# Altium integrated library TI Data Converters Analog to Digital Converter.IntLib: 2198 symbols (part 69 of 164)
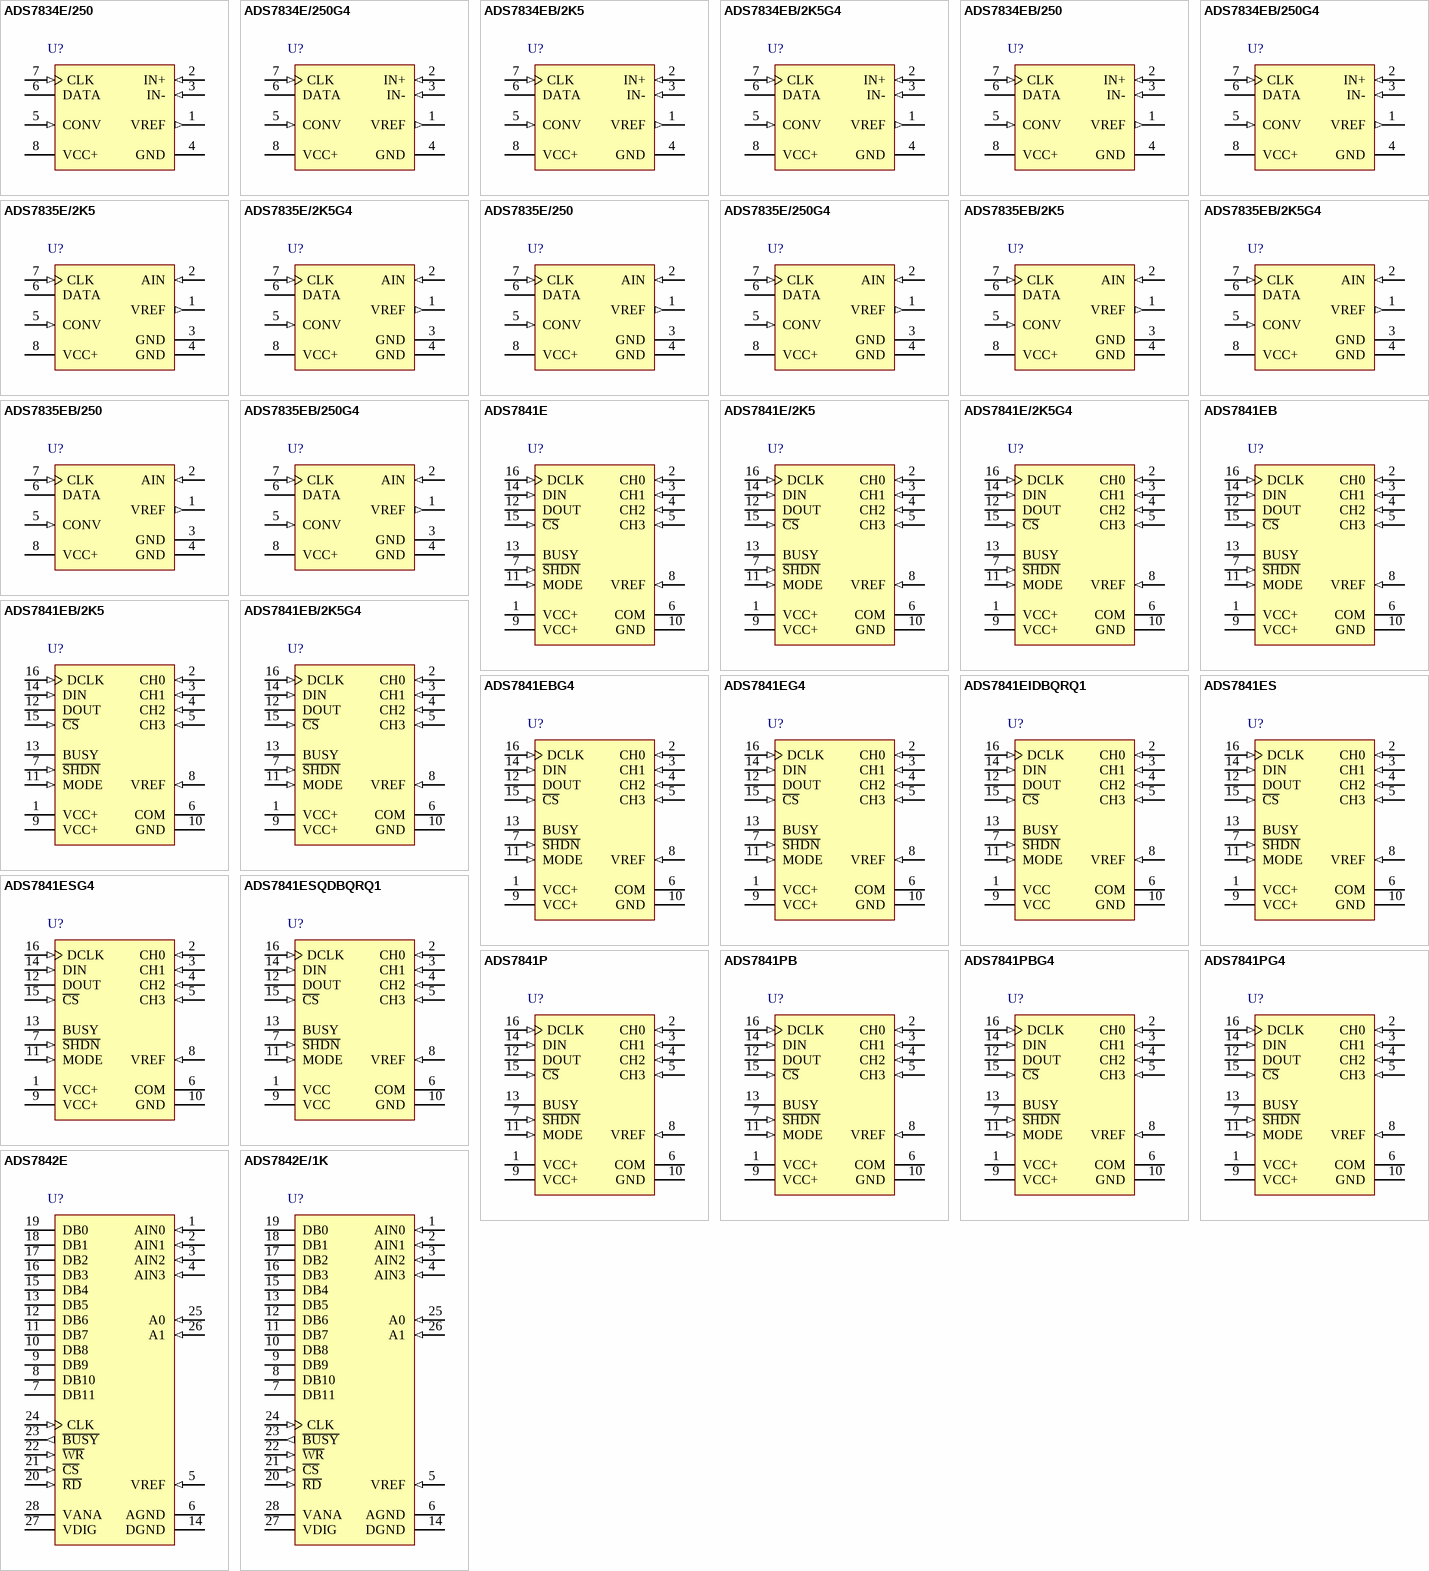
[diagram p194: symbols ADS7834E/250 to ADS7842E/1K]

## ADS7834E/250G4
designator U?
12-Bit High Speed Low Power Sampling ADC, -40 to 85 degC, 8-pin SOP (DGK8), Green (RoHS & no Sb/Br); Manufacturer: Texas Instruments; PartNumber: ADS7834E/250G4; # Input Channels: 1; Analog Voltage AV/DD(Max)(V): 5.25; Analog Voltage AV/DD(Min)(V): 4.75; Architecture: SAR; INL(Max)(+/-LSB): 2; Interface: Serial SPI; Resolution(Bits): 12; Sample Rate (max)(SPS): 500k; SFDR(dB): 78; SINAD(dB): 70; SNR(dB): 72; SubFamily: Precision ADC (<=10MSPS); DatasheetVersion: SBAS098A; PackageVersion: 4073329/E, 05/2006; PackageReference: DGK8; PackageDescription: 8-Pin Thin Small Outline, Body 3 x 3 mm, Pitch 0.65 mm; Supplier 1: Digi-Key; Supplier Part Number 1: ADS8324E/2K5-ND; Digital Supply(Max)(V): 5.25; Digital Supply(Min)(V): 4.75; Eco-Plan: Green (RoHS & no Sb/Br); Mounting Technology: Surface Mount; Code_JEDEC: MO-187; ComponentLink1Description: Manufacturer URL; ComponentLink1URL: http://www.ti.com/; ComponentLink2Description: Datasheet; ComponentLink2URL: http://www.ti.com/general/docs/lit/getliterature.tsp?genericPartNumber=ADS7834&fileType=pdf; ComponentLink3Description: Package Specification; ComponentLink3URL: http://www.ti.com/litv/pdf/mpds028d
footprint TI-DGK8_N (SOP, 8-Leads, Body 3x3mm, Pitch 0.65mm, IPC Medium Density)
footprint TI-DGK8_L (SOP, 8-Leads, Body 3x3mm, Pitch 0.65mm, IPC High Density)
footprint TI-DGK8_M (SOP, 8-Leads, Body 3x3mm, Pitch 0.65mm, IPC Low Density)
pins: 1 VREF (out) "Reference Output. Decouple to ground with a 0.1uF ceramic capacitor and a 2.2uF tantalum capacitor.", 2 IN+ (in) "Non-Inverting Input.", 3 IN- (in) "Inverting Input. Connect to ground or to remote ground sense point.", 4 GND (power) "Ground.", 5 CONV (in) "Convert Input. Controls the sample/hold mode, start of conversion, start of serial data transfer, type of serial transfer, and power down mode. See the Digital Interface section for more information.", 6 DATA (hiz) "Serial Data Output. The 12-bit conversion result is serially transmitted most significant bit first with each bit valid on the rising edge of CLK. By properly controlling the CONV input, it is possibly to have the data (See Datasheet)", 7 CLK (in) "Clock Input. Synchronizes the serial data transfer and determines conversion speed.", 8 VCC+ (power) "Power Supply. Decouple to ground with a 0.1uF ceramic capacitor and a 10uF tantalum capacitor."

## ADS7834EB/2K5
designator U?
12-Bit High Speed Low Power Sampling ADC, -40 to 85 degC, 8-pin SOP (DGK8), Green (RoHS & no Sb/Br); Manufacturer: Texas Instruments; PartNumber: ADS7834EB/2K5; # Input Channels: 1; Analog Voltage AV/DD(Max)(V): 5.25; Analog Voltage AV/DD(Min)(V): 4.75; Architecture: SAR; Interface: Serial SPI; Resolution(Bits): 12; Sample Rate (max)(SPS): 500k; SFDR(dB): 82; SINAD(dB): 72; SubFamily: Precision ADC (<=10MSPS); DatasheetVersion: SBAS098A; PackageVersion: 4073329/E, 05/2006; PackageReference: DGK8; PackageDescription: 8-Pin Thin Small Outline, Body 3 x 3 mm, Pitch 0.65 mm; Supplier 1: Digi-Key; Supplier Part Number 1: ADS8324E/2K5G4-ND; Digital Supply(Max)(V): 5.25; Digital Supply(Min)(V): 4.75; Eco-Plan: Green (RoHS & no Sb/Br); INL(Max)(+/-LSB): 1; SNR(dB): 72; Mounting Technology: Surface Mount; Code_JEDEC: MO-187; ComponentLink1Description: Manufacturer URL; ComponentLink1URL: http://www.ti.com/; ComponentLink2Description: Datasheet; ComponentLink2URL: http://www.ti.com/general/docs/lit/getliterature.tsp?genericPartNumber=ADS7834&fileType=pdf; ComponentLink3Description: Package Specification; ComponentLink3URL: http://www.ti.com/litv/pdf/mpds028d
footprint TI-DGK8_N (SOP, 8-Leads, Body 3x3mm, Pitch 0.65mm, IPC Medium Density)
footprint TI-DGK8_L (SOP, 8-Leads, Body 3x3mm, Pitch 0.65mm, IPC High Density)
footprint TI-DGK8_M (SOP, 8-Leads, Body 3x3mm, Pitch 0.65mm, IPC Low Density)
pins: 1 VREF (out) "Reference Output. Decouple to ground with a 0.1uF ceramic capacitor and a 2.2uF tantalum capacitor.", 2 IN+ (in) "Non-Inverting Input.", 3 IN- (in) "Inverting Input. Connect to ground or to remote ground sense point.", 4 GND (power) "Ground.", 5 CONV (in) "Convert Input. Controls the sample/hold mode, start of conversion, start of serial data transfer, type of serial transfer, and power down mode. See the Digital Interface section for more information.", 6 DATA (hiz) "Serial Data Output. The 12-bit conversion result is serially transmitted most significant bit first with each bit valid on the rising edge of CLK. By properly controlling the CONV input, it is possibly to have the data (See Datasheet)", 7 CLK (in) "Clock Input. Synchronizes the serial data transfer and determines conversion speed.", 8 VCC+ (power) "Power Supply. Decouple to ground with a 0.1uF ceramic capacitor and a 10uF tantalum capacitor."

## ADS7834EB/2K5G4
designator U?
12-Bit High Speed Low Power Sampling ADC, -40 to 85 degC, 8-pin SOP (DGK8), Green (RoHS & no Sb/Br); Manufacturer: Texas Instruments; PartNumber: ADS7834EB/2K5G4; # Input Channels: 1; Analog Voltage AV/DD(Max)(V): 5.25; Analog Voltage AV/DD(Min)(V): 4.75; Architecture: SAR; Interface: Serial SPI; Resolution(Bits): 12; Sample Rate (max)(SPS): 500k; SFDR(dB): 82; SINAD(dB): 72; SubFamily: Precision ADC (<=10MSPS); DatasheetVersion: SBAS098A; PackageVersion: 4073329/E, 05/2006; PackageReference: DGK8; PackageDescription: 8-Pin Thin Small Outline, Body 3 x 3 mm, Pitch 0.65 mm; Supplier 1: Digi-Key; Supplier Part Number 1: ADS8324EB/250-ND; Digital Supply(Max)(V): 5.25; Digital Supply(Min)(V): 4.75; Eco-Plan: Green (RoHS & no Sb/Br); INL(Max)(+/-LSB): 1; SNR(dB): 72; Mounting Technology: Surface Mount; Code_JEDEC: MO-187; ComponentLink1Description: Manufacturer URL; ComponentLink1URL: http://www.ti.com/; ComponentLink2Description: Datasheet; ComponentLink2URL: http://www.ti.com/general/docs/lit/getliterature.tsp?genericPartNumber=ADS7834&fileType=pdf; ComponentLink3Description: Package Specification; ComponentLink3URL: http://www.ti.com/litv/pdf/mpds028d
footprint TI-DGK8_N (SOP, 8-Leads, Body 3x3mm, Pitch 0.65mm, IPC Medium Density)
footprint TI-DGK8_L (SOP, 8-Leads, Body 3x3mm, Pitch 0.65mm, IPC High Density)
footprint TI-DGK8_M (SOP, 8-Leads, Body 3x3mm, Pitch 0.65mm, IPC Low Density)
pins: 1 VREF (out) "Reference Output. Decouple to ground with a 0.1uF ceramic capacitor and a 2.2uF tantalum capacitor.", 2 IN+ (in) "Non-Inverting Input.", 3 IN- (in) "Inverting Input. Connect to ground or to remote ground sense point.", 4 GND (power) "Ground.", 5 CONV (in) "Convert Input. Controls the sample/hold mode, start of conversion, start of serial data transfer, type of serial transfer, and power down mode. See the Digital Interface section for more information.", 6 DATA (hiz) "Serial Data Output. The 12-bit conversion result is serially transmitted most significant bit first with each bit valid on the rising edge of CLK. By properly controlling the CONV input, it is possibly to have the data (See Datasheet)", 7 CLK (in) "Clock Input. Synchronizes the serial data transfer and determines conversion speed.", 8 VCC+ (power) "Power Supply. Decouple to ground with a 0.1uF ceramic capacitor and a 10uF tantalum capacitor."

## ADS7834EB/250
designator U?
12-Bit High Speed Low Power Sampling ADC, -40 to 85 degC, 8-pin SOP (DGK8), Green (RoHS & no Sb/Br); Manufacturer: Texas Instruments; PartNumber: ADS7834EB/250; # Input Channels: 1; Analog Voltage AV/DD(Max)(V): 5.25; Analog Voltage AV/DD(Min)(V): 4.75; Architecture: SAR; Interface: Serial SPI; Resolution(Bits): 12; Sample Rate (max)(SPS): 500k; SFDR(dB): 82; SINAD(dB): 72; SubFamily: Precision ADC (<=10MSPS); DatasheetVersion: SBAS098A; PackageVersion: 4073329/E, 05/2006; PackageReference: DGK8; PackageDescription: 8-Pin Thin Small Outline, Body 3 x 3 mm, Pitch 0.65 mm; Supplier 1: Digi-Key; Supplier Part Number 1: ADS8324EB/250G4-ND; Digital Supply(Max)(V): 5.25; Digital Supply(Min)(V): 4.75; Eco-Plan: Green (RoHS & no Sb/Br); INL(Max)(+/-LSB): 1; SNR(dB): 72; Mounting Technology: Surface Mount; Code_JEDEC: MO-187; ComponentLink1Description: Manufacturer URL; ComponentLink1URL: http://www.ti.com/; ComponentLink2Description: Datasheet; ComponentLink2URL: http://www.ti.com/general/docs/lit/getliterature.tsp?genericPartNumber=ADS7834&fileType=pdf; ComponentLink3Description: Package Specification; ComponentLink3URL: http://www.ti.com/litv/pdf/mpds028d
footprint TI-DGK8_N (SOP, 8-Leads, Body 3x3mm, Pitch 0.65mm, IPC Medium Density)
footprint TI-DGK8_L (SOP, 8-Leads, Body 3x3mm, Pitch 0.65mm, IPC High Density)
footprint TI-DGK8_M (SOP, 8-Leads, Body 3x3mm, Pitch 0.65mm, IPC Low Density)
pins: 1 VREF (out) "Reference Output. Decouple to ground with a 0.1uF ceramic capacitor and a 2.2uF tantalum capacitor.", 2 IN+ (in) "Non-Inverting Input.", 3 IN- (in) "Inverting Input. Connect to ground or to remote ground sense point.", 4 GND (power) "Ground.", 5 CONV (in) "Convert Input. Controls the sample/hold mode, start of conversion, start of serial data transfer, type of serial transfer, and power down mode. See the Digital Interface section for more information.", 6 DATA (hiz) "Serial Data Output. The 12-bit conversion result is serially transmitted most significant bit first with each bit valid on the rising edge of CLK. By properly controlling the CONV input, it is possibly to have the data (See Datasheet)", 7 CLK (in) "Clock Input. Synchronizes the serial data transfer and determines conversion speed.", 8 VCC+ (power) "Power Supply. Decouple to ground with a 0.1uF ceramic capacitor and a 10uF tantalum capacitor."

## ADS7834EB/250G4
designator U?
12-Bit High Speed Low Power Sampling ADC, -40 to 85 degC, 8-pin SOP (DGK8), Green (RoHS & no Sb/Br); Manufacturer: Texas Instruments; PartNumber: ADS7834EB/250G4; # Input Channels: 1; Analog Voltage AV/DD(Max)(V): 5.25; Analog Voltage AV/DD(Min)(V): 4.75; Architecture: SAR; Interface: Serial SPI; Resolution(Bits): 12; Sample Rate (max)(SPS): 500k; SFDR(dB): 82; SINAD(dB): 72; SubFamily: Precision ADC (<=10MSPS); DatasheetVersion: SBAS098A; PackageVersion: 4073329/E, 05/2006; PackageReference: DGK8; PackageDescription: 8-Pin Thin Small Outline, Body 3 x 3 mm, Pitch 0.65 mm; Supplier 1: Digi-Key; Supplier Part Number 1: ADS8324EB/2K5-ND; Digital Supply(Max)(V): 5.25; Digital Supply(Min)(V): 4.75; Eco-Plan: Green (RoHS & no Sb/Br); INL(Max)(+/-LSB): 1; SNR(dB): 72; Mounting Technology: Surface Mount; Code_JEDEC: MO-187; ComponentLink1Description: Manufacturer URL; ComponentLink1URL: http://www.ti.com/; ComponentLink2Description: Datasheet; ComponentLink2URL: http://www.ti.com/general/docs/lit/getliterature.tsp?genericPartNumber=ADS7834&fileType=pdf; ComponentLink3Description: Package Specification; ComponentLink3URL: http://www.ti.com/litv/pdf/mpds028d
footprint TI-DGK8_N (SOP, 8-Leads, Body 3x3mm, Pitch 0.65mm, IPC Medium Density)
footprint TI-DGK8_L (SOP, 8-Leads, Body 3x3mm, Pitch 0.65mm, IPC High Density)
footprint TI-DGK8_M (SOP, 8-Leads, Body 3x3mm, Pitch 0.65mm, IPC Low Density)
pins: 1 VREF (out) "Reference Output. Decouple to ground with a 0.1uF ceramic capacitor and a 2.2uF tantalum capacitor.", 2 IN+ (in) "Non-Inverting Input.", 3 IN- (in) "Inverting Input. Connect to ground or to remote ground sense point.", 4 GND (power) "Ground.", 5 CONV (in) "Convert Input. Controls the sample/hold mode, start of conversion, start of serial data transfer, type of serial transfer, and power down mode. See the Digital Interface section for more information.", 6 DATA (hiz) "Serial Data Output. The 12-bit conversion result is serially transmitted most significant bit first with each bit valid on the rising edge of CLK. By properly controlling the CONV input, it is possibly to have the data (See Datasheet)", 7 CLK (in) "Clock Input. Synchronizes the serial data transfer and determines conversion speed.", 8 VCC+ (power) "Power Supply. Decouple to ground with a 0.1uF ceramic capacitor and a 10uF tantalum capacitor."

## ADS7835E/2K5
designator U?
12-Bit, High-Speed, Low Power Sampling ADC, -40 to 85 degC, 8-pin SOP (DGK8), Green (RoHS & no Sb/Br); Manufacturer: Texas Instruments; PartNumber: ADS7835E/2K5; # Input Channels: 1; Analog Voltage AV/DD(Max)(V): 5.25; Analog Voltage AV/DD(Min)(V): 4.75; Architecture: SAR; INL(Max)(+/-LSB): 2; Interface: Serial SPI; Resolution(Bits): 12; Sample Rate (max)(SPS): 500k; SFDR(dB): 78; SINAD(dB): 70; SNR(dB): 72; SubFamily: Precision ADC (<=10MSPS); DatasheetVersion: SBAS102; PackageVersion: 4073329/E, 05/2006; PackageReference: DGK8; PackageDescription: 8-Pin Thin Small Outline, Body 3 x 3 mm, Pitch 0.65 mm; Supplier 1: Digi-Key; Supplier Part Number 1: ADS8324EB/2K5G4-ND; Digital Supply(Max)(V): 5.25; Digital Supply(Min)(V): 4.75; Eco-Plan: Green (RoHS & no Sb/Br); Mounting Technology: Surface Mount; Code_JEDEC: MO-187; ComponentLink1Description: Manufacturer URL; ComponentLink1URL: http://www.ti.com/; ComponentLink2Description: Datasheet; ComponentLink2URL: http://www.ti.com/general/docs/lit/getliterature.tsp?genericPartNumber=ADS7835&fileType=pdf; ComponentLink3Description: Package Specification; ComponentLink3URL: http://www.ti.com/litv/pdf/mpds028d
footprint TI-DGK8_N (SOP, 8-Leads, Body 3x3mm, Pitch 0.65mm, IPC Medium Density)
footprint TI-DGK8_L (SOP, 8-Leads, Body 3x3mm, Pitch 0.65mm, IPC High Density)
footprint TI-DGK8_M (SOP, 8-Leads, Body 3x3mm, Pitch 0.65mm, IPC Low Density)
pins: 1 VREF (out) "Reference Output. Decouple to ground with a 0.1uF ceramic capacitor and a 2.2uF tantalum capacitor.", 2 AIN (in) "+/-2.5V Input", 3 GND (power) "Ground", 4 GND (power) "Ground", 5 CONV (in) "Convert Input. Controls the sample/hold mode, start of conversion, start of serial data transfer, type of serial transfer, and powerdown mode. See the Digital Interface section for more information.", 6 DATA (hiz) "Serial Data Output. The 12-bit conversion result is serially transmitted most significant bit first with each bit valid on the rising edge of CLK. By properly controlling the CONV input, it is possibly to have the data (See Datasheet)", 7 CLK (in) "Clock Input. Synchronizes the serial data transfer and determines conversion speed.", 8 VCC+ (power) "Power Supply. Decouple to ground with a 0.1uF ceramic capacitor and a 10uF tantalum capacitor."

## ADS7835E/2K5G4
designator U?
12-Bit, High-Speed, Low Power Sampling ADC, -40 to 85 degC, 8-pin SOP (DGK8), Green (RoHS & no Sb/Br); Manufacturer: Texas Instruments; PartNumber: ADS7835E/2K5G4; # Input Channels: 1; Analog Voltage AV/DD(Max)(V): 5.25; Analog Voltage AV/DD(Min)(V): 4.75; Architecture: SAR; INL(Max)(+/-LSB): 2; Interface: Serial SPI; Resolution(Bits): 12; Sample Rate (max)(SPS): 500k; SFDR(dB): 78; SINAD(dB): 70; SNR(dB): 72; SubFamily: Precision ADC (<=10MSPS); DatasheetVersion: SBAS102; PackageVersion: 4073329/E, 05/2006; PackageReference: DGK8; PackageDescription: 8-Pin Thin Small Outline, Body 3 x 3 mm, Pitch 0.65 mm; Supplier 1: Digi-Key; Supplier Part Number 1: 296-12498-5-ND; Digital Supply(Max)(V): 5.25; Digital Supply(Min)(V): 4.75; Eco-Plan: Green (RoHS & no Sb/Br); Mounting Technology: Surface Mount; Code_JEDEC: MO-187; ComponentLink1Description: Manufacturer URL; ComponentLink1URL: http://www.ti.com/; ComponentLink2Description: Datasheet; ComponentLink2URL: http://www.ti.com/general/docs/lit/getliterature.tsp?genericPartNumber=ADS7835&fileType=pdf; ComponentLink3Description: Package Specification; ComponentLink3URL: http://www.ti.com/litv/pdf/mpds028d
footprint TI-DGK8_N (SOP, 8-Leads, Body 3x3mm, Pitch 0.65mm, IPC Medium Density)
footprint TI-DGK8_L (SOP, 8-Leads, Body 3x3mm, Pitch 0.65mm, IPC High Density)
footprint TI-DGK8_M (SOP, 8-Leads, Body 3x3mm, Pitch 0.65mm, IPC Low Density)
pins: 1 VREF (out) "Reference Output. Decouple to ground with a 0.1uF ceramic capacitor and a 2.2uF tantalum capacitor.", 2 AIN (in) "+/-2.5V Input", 3 GND (power) "Ground", 4 GND (power) "Ground", 5 CONV (in) "Convert Input. Controls the sample/hold mode, start of conversion, start of serial data transfer, type of serial transfer, and powerdown mode. See the Digital Interface section for more information.", 6 DATA (hiz) "Serial Data Output. The 12-bit conversion result is serially transmitted most significant bit first with each bit valid on the rising edge of CLK. By properly controlling the CONV input, it is possibly to have the data (See Datasheet)", 7 CLK (in) "Clock Input. Synchronizes the serial data transfer and determines conversion speed.", 8 VCC+ (power) "Power Supply. Decouple to ground with a 0.1uF ceramic capacitor and a 10uF tantalum capacitor."

## ADS7835E/250
designator U?
12-Bit, High-Speed, Low Power Sampling ADC, -40 to 85 degC, 8-pin SOP (DGK8), Green (RoHS & no Sb/Br); Manufacturer: Texas Instruments; PartNumber: ADS7835E/250; # Input Channels: 1; Analog Voltage AV/DD(Max)(V): 5.25; Analog Voltage AV/DD(Min)(V): 4.75; Architecture: SAR; INL(Max)(+/-LSB): 2; Interface: Serial SPI; Resolution(Bits): 12; Sample Rate (max)(SPS): 500k; SFDR(dB): 78; SINAD(dB): 70; SNR(dB): 72; SubFamily: Precision ADC (<=10MSPS); DatasheetVersion: SBAS102; PackageVersion: 4073329/E, 05/2006; PackageReference: DGK8; PackageDescription: 8-Pin Thin Small Outline, Body 3 x 3 mm, Pitch 0.65 mm; Supplier 1: Digi-Key; Supplier Part Number 1: TLC3541IDG4-ND; Digital Supply(Max)(V): 5.25; Digital Supply(Min)(V): 4.75; Eco-Plan: Green (RoHS & no Sb/Br); Mounting Technology: Surface Mount; Code_JEDEC: MO-187; ComponentLink1Description: Manufacturer URL; ComponentLink1URL: http://www.ti.com/; ComponentLink2Description: Datasheet; ComponentLink2URL: http://www.ti.com/general/docs/lit/getliterature.tsp?genericPartNumber=ADS7835&fileType=pdf; ComponentLink3Description: Package Specification; ComponentLink3URL: http://www.ti.com/litv/pdf/mpds028d
footprint TI-DGK8_N (SOP, 8-Leads, Body 3x3mm, Pitch 0.65mm, IPC Medium Density)
footprint TI-DGK8_L (SOP, 8-Leads, Body 3x3mm, Pitch 0.65mm, IPC High Density)
footprint TI-DGK8_M (SOP, 8-Leads, Body 3x3mm, Pitch 0.65mm, IPC Low Density)
pins: 1 VREF (out) "Reference Output. Decouple to ground with a 0.1uF ceramic capacitor and a 2.2uF tantalum capacitor.", 2 AIN (in) "+/-2.5V Input", 3 GND (power) "Ground", 4 GND (power) "Ground", 5 CONV (in) "Convert Input. Controls the sample/hold mode, start of conversion, start of serial data transfer, type of serial transfer, and powerdown mode. See the Digital Interface section for more information.", 6 DATA (hiz) "Serial Data Output. The 12-bit conversion result is serially transmitted most significant bit first with each bit valid on the rising edge of CLK. By properly controlling the CONV input, it is possibly to have the data (See Datasheet)", 7 CLK (in) "Clock Input. Synchronizes the serial data transfer and determines conversion speed.", 8 VCC+ (power) "Power Supply. Decouple to ground with a 0.1uF ceramic capacitor and a 10uF tantalum capacitor."

## ADS7835E/250G4
designator U?
12-Bit, High-Speed, Low Power Sampling ADC, -40 to 85 degC, 8-pin SOP (DGK8), Green (RoHS & no Sb/Br); Manufacturer: Texas Instruments; PartNumber: ADS7835E/250G4; # Input Channels: 1; Analog Voltage AV/DD(Max)(V): 5.25; Analog Voltage AV/DD(Min)(V): 4.75; Architecture: SAR; INL(Max)(+/-LSB): 2; Interface: Serial SPI; Resolution(Bits): 12; Sample Rate (max)(SPS): 500k; SFDR(dB): 78; SINAD(dB): 70; SNR(dB): 72; SubFamily: Precision ADC (<=10MSPS); DatasheetVersion: SBAS102; PackageVersion: 4073329/E, 05/2006; PackageReference: DGK8; PackageDescription: 8-Pin Thin Small Outline, Body 3 x 3 mm, Pitch 0.65 mm; Supplier 1: Digi-Key; Supplier Part Number 1: TLC3541IDR-ND; Digital Supply(Max)(V): 5.25; Digital Supply(Min)(V): 4.75; Eco-Plan: Green (RoHS & no Sb/Br); Mounting Technology: Surface Mount; Code_JEDEC: MO-187; ComponentLink1Description: Manufacturer URL; ComponentLink1URL: http://www.ti.com/; ComponentLink2Description: Datasheet; ComponentLink2URL: http://www.ti.com/general/docs/lit/getliterature.tsp?genericPartNumber=ADS7835&fileType=pdf; ComponentLink3Description: Package Specification; ComponentLink3URL: http://www.ti.com/litv/pdf/mpds028d
footprint TI-DGK8_N (SOP, 8-Leads, Body 3x3mm, Pitch 0.65mm, IPC Medium Density)
footprint TI-DGK8_L (SOP, 8-Leads, Body 3x3mm, Pitch 0.65mm, IPC High Density)
footprint TI-DGK8_M (SOP, 8-Leads, Body 3x3mm, Pitch 0.65mm, IPC Low Density)
pins: 1 VREF (out) "Reference Output. Decouple to ground with a 0.1uF ceramic capacitor and a 2.2uF tantalum capacitor.", 2 AIN (in) "+/-2.5V Input", 3 GND (power) "Ground", 4 GND (power) "Ground", 5 CONV (in) "Convert Input. Controls the sample/hold mode, start of conversion, start of serial data transfer, type of serial transfer, and powerdown mode. See the Digital Interface section for more information.", 6 DATA (hiz) "Serial Data Output. The 12-bit conversion result is serially transmitted most significant bit first with each bit valid on the rising edge of CLK. By properly controlling the CONV input, it is possibly to have the data (See Datasheet)", 7 CLK (in) "Clock Input. Synchronizes the serial data transfer and determines conversion speed.", 8 VCC+ (power) "Power Supply. Decouple to ground with a 0.1uF ceramic capacitor and a 10uF tantalum capacitor."

## ADS7835EB/2K5
designator U?
12-Bit, High-Speed, Low Power Sampling ADC, -40 to 85 degC, 8-pin SOP (DGK8), Green (RoHS & no Sb/Br); Manufacturer: Texas Instruments; PartNumber: ADS7835EB/2K5; # Input Channels: 1; Analog Voltage AV/DD(Max)(V): 5.25; Analog Voltage AV/DD(Min)(V): 4.75; Architecture: SAR; Interface: Serial SPI; Resolution(Bits): 12; Sample Rate (max)(SPS): 500k; SFDR(dB): 82; SINAD(dB): 72; SubFamily: Precision ADC (<=10MSPS); DatasheetVersion: SBAS102; PackageVersion: 4073329/E, 05/2006; PackageReference: DGK8; PackageDescription: 8-Pin Thin Small Outline, Body 3 x 3 mm, Pitch 0.65 mm; Supplier 1: Digi-Key; Supplier Part Number 1: TLC3541IDRG4-ND; Digital Supply(Max)(V): 5.25; Digital Supply(Min)(V): 4.75; Eco-Plan: Green (RoHS & no Sb/Br); INL(Max)(+/-LSB): 1; SNR(dB): 72; Mounting Technology: Surface Mount; Code_JEDEC: MO-187; ComponentLink1Description: Manufacturer URL; ComponentLink1URL: http://www.ti.com/; ComponentLink2Description: Datasheet; ComponentLink2URL: http://www.ti.com/general/docs/lit/getliterature.tsp?genericPartNumber=ADS7835&fileType=pdf; ComponentLink3Description: Package Specification; ComponentLink3URL: http://www.ti.com/litv/pdf/mpds028d
footprint TI-DGK8_N (SOP, 8-Leads, Body 3x3mm, Pitch 0.65mm, IPC Medium Density)
footprint TI-DGK8_L (SOP, 8-Leads, Body 3x3mm, Pitch 0.65mm, IPC High Density)
footprint TI-DGK8_M (SOP, 8-Leads, Body 3x3mm, Pitch 0.65mm, IPC Low Density)
pins: 1 VREF (out) "Reference Output. Decouple to ground with a 0.1uF ceramic capacitor and a 2.2uF tantalum capacitor.", 2 AIN (in) "+/-2.5V Input", 3 GND (power) "Ground", 4 GND (power) "Ground", 5 CONV (in) "Convert Input. Controls the sample/hold mode, start of conversion, start of serial data transfer, type of serial transfer, and powerdown mode. See the Digital Interface section for more information.", 6 DATA (hiz) "Serial Data Output. The 12-bit conversion result is serially transmitted most significant bit first with each bit valid on the rising edge of CLK. By properly controlling the CONV input, it is possibly to have the data (See Datasheet)", 7 CLK (in) "Clock Input. Synchronizes the serial data transfer and determines conversion speed.", 8 VCC+ (power) "Power Supply. Decouple to ground with a 0.1uF ceramic capacitor and a 10uF tantalum capacitor."

## ADS7835EB/2K5G4
designator U?
12-Bit, High-Speed, Low Power Sampling ADC, -40 to 85 degC, 8-pin SOP (DGK8), Green (RoHS & no Sb/Br); Manufacturer: Texas Instruments; PartNumber: ADS7835EB/2K5G4; # Input Channels: 1; Analog Voltage AV/DD(Max)(V): 5.25; Analog Voltage AV/DD(Min)(V): 4.75; Architecture: SAR; Interface: Serial SPI; Resolution(Bits): 12; Sample Rate (max)(SPS): 500k; SFDR(dB): 82; SINAD(dB): 72; SubFamily: Precision ADC (<=10MSPS); DatasheetVersion: SBAS102; PackageVersion: 4073329/E, 05/2006; PackageReference: DGK8; PackageDescription: 8-Pin Thin Small Outline, Body 3 x 3 mm, Pitch 0.65 mm; Supplier 1: Digi-Key; Supplier Part Number 1: ADS7827IDRBR-ND; Digital Supply(Max)(V): 5.25; Digital Supply(Min)(V): 4.75; Eco-Plan: Green (RoHS & no Sb/Br); INL(Max)(+/-LSB): 1; SNR(dB): 72; Mounting Technology: Surface Mount; Code_JEDEC: MO-187; ComponentLink1Description: Manufacturer URL; ComponentLink1URL: http://www.ti.com/; ComponentLink2Description: Datasheet; ComponentLink2URL: http://www.ti.com/general/docs/lit/getliterature.tsp?genericPartNumber=ADS7835&fileType=pdf; ComponentLink3Description: Package Specification; ComponentLink3URL: http://www.ti.com/litv/pdf/mpds028d
footprint TI-DGK8_N (SOP, 8-Leads, Body 3x3mm, Pitch 0.65mm, IPC Medium Density)
footprint TI-DGK8_L (SOP, 8-Leads, Body 3x3mm, Pitch 0.65mm, IPC High Density)
footprint TI-DGK8_M (SOP, 8-Leads, Body 3x3mm, Pitch 0.65mm, IPC Low Density)
pins: 1 VREF (out) "Reference Output. Decouple to ground with a 0.1uF ceramic capacitor and a 2.2uF tantalum capacitor.", 2 AIN (in) "+/-2.5V Input", 3 GND (power) "Ground", 4 GND (power) "Ground", 5 CONV (in) "Convert Input. Controls the sample/hold mode, start of conversion, start of serial data transfer, type of serial transfer, and powerdown mode. See the Digital Interface section for more information.", 6 DATA (hiz) "Serial Data Output. The 12-bit conversion result is serially transmitted most significant bit first with each bit valid on the rising edge of CLK. By properly controlling the CONV input, it is possibly to have the data (See Datasheet)", 7 CLK (in) "Clock Input. Synchronizes the serial data transfer and determines conversion speed.", 8 VCC+ (power) "Power Supply. Decouple to ground with a 0.1uF ceramic capacitor and a 10uF tantalum capacitor."

## ADS7835EB/250
designator U?
12-Bit, High-Speed, Low Power Sampling ADC, -40 to 85 degC, 8-pin SOP (DGK8), Green (RoHS & no Sb/Br); Manufacturer: Texas Instruments; PartNumber: ADS7835EB/250; # Input Channels: 1; Analog Voltage AV/DD(Max)(V): 5.25; Analog Voltage AV/DD(Min)(V): 4.75; Architecture: SAR; Interface: Serial SPI; Resolution(Bits): 12; Sample Rate (max)(SPS): 500k; SFDR(dB): 82; SINAD(dB): 72; SubFamily: Precision ADC (<=10MSPS); DatasheetVersion: SBAS102; PackageVersion: 4073329/E, 05/2006; PackageReference: DGK8; PackageDescription: 8-Pin Thin Small Outline, Body 3 x 3 mm, Pitch 0.65 mm; Supplier 1: Digi-Key; Supplier Part Number 1: ADS7827IDRBRG4-ND; Digital Supply(Max)(V): 5.25; Digital Supply(Min)(V): 4.75; Eco-Plan: Green (RoHS & no Sb/Br); INL(Max)(+/-LSB): 1; SNR(dB): 72; Mounting Technology: Surface Mount; Code_JEDEC: MO-187; ComponentLink1Description: Manufacturer URL; ComponentLink1URL: http://www.ti.com/; ComponentLink2Description: Datasheet; ComponentLink2URL: http://www.ti.com/general/docs/lit/getliterature.tsp?genericPartNumber=ADS7835&fileType=pdf; ComponentLink3Description: Package Specification; ComponentLink3URL: http://www.ti.com/litv/pdf/mpds028d
footprint TI-DGK8_N (SOP, 8-Leads, Body 3x3mm, Pitch 0.65mm, IPC Medium Density)
footprint TI-DGK8_L (SOP, 8-Leads, Body 3x3mm, Pitch 0.65mm, IPC High Density)
footprint TI-DGK8_M (SOP, 8-Leads, Body 3x3mm, Pitch 0.65mm, IPC Low Density)
pins: 1 VREF (out) "Reference Output. Decouple to ground with a 0.1uF ceramic capacitor and a 2.2uF tantalum capacitor.", 2 AIN (in) "+/-2.5V Input", 3 GND (power) "Ground", 4 GND (power) "Ground", 5 CONV (in) "Convert Input. Controls the sample/hold mode, start of conversion, start of serial data transfer, type of serial transfer, and powerdown mode. See the Digital Interface section for more information.", 6 DATA (hiz) "Serial Data Output. The 12-bit conversion result is serially transmitted most significant bit first with each bit valid on the rising edge of CLK. By properly controlling the CONV input, it is possibly to have the data (See Datasheet)", 7 CLK (in) "Clock Input. Synchronizes the serial data transfer and determines conversion speed.", 8 VCC+ (power) "Power Supply. Decouple to ground with a 0.1uF ceramic capacitor and a 10uF tantalum capacitor."

## ADS7835EB/250G4
designator U?
12-Bit, High-Speed, Low Power Sampling ADC, -40 to 85 degC, 8-pin SOP (DGK8), Green (RoHS & no Sb/Br); Manufacturer: Texas Instruments; PartNumber: ADS7835EB/250G4; # Input Channels: 1; Analog Voltage AV/DD(Max)(V): 5.25; Analog Voltage AV/DD(Min)(V): 4.75; Architecture: SAR; Interface: Serial SPI; Resolution(Bits): 12; Sample Rate (max)(SPS): 500k; SFDR(dB): 82; SINAD(dB): 72; SubFamily: Precision ADC (<=10MSPS); DatasheetVersion: SBAS102; PackageVersion: 4073329/E, 05/2006; PackageReference: DGK8; PackageDescription: 8-Pin Thin Small Outline, Body 3 x 3 mm, Pitch 0.65 mm; Supplier 1: Digi-Key; Supplier Part Number 1: 296-15317-2-ND; Digital Supply(Max)(V): 5.25; Digital Supply(Min)(V): 4.75; Eco-Plan: Green (RoHS & no Sb/Br); INL(Max)(+/-LSB): 1; SNR(dB): 72; Mounting Technology: Surface Mount; Code_JEDEC: MO-187; ComponentLink1Description: Manufacturer URL; ComponentLink1URL: http://www.ti.com/; ComponentLink2Description: Datasheet; ComponentLink2URL: http://www.ti.com/general/docs/lit/getliterature.tsp?genericPartNumber=ADS7835&fileType=pdf; ComponentLink3Description: Package Specification; ComponentLink3URL: http://www.ti.com/litv/pdf/mpds028d
footprint TI-DGK8_N (SOP, 8-Leads, Body 3x3mm, Pitch 0.65mm, IPC Medium Density)
footprint TI-DGK8_L (SOP, 8-Leads, Body 3x3mm, Pitch 0.65mm, IPC High Density)
footprint TI-DGK8_M (SOP, 8-Leads, Body 3x3mm, Pitch 0.65mm, IPC Low Density)
pins: 1 VREF (out) "Reference Output. Decouple to ground with a 0.1uF ceramic capacitor and a 2.2uF tantalum capacitor.", 2 AIN (in) "+/-2.5V Input", 3 GND (power) "Ground", 4 GND (power) "Ground", 5 CONV (in) "Convert Input. Controls the sample/hold mode, start of conversion, start of serial data transfer, type of serial transfer, and powerdown mode. See the Digital Interface section for more information.", 6 DATA (hiz) "Serial Data Output. The 12-bit conversion result is serially transmitted most significant bit first with each bit valid on the rising edge of CLK. By properly controlling the CONV input, it is possibly to have the data (See Datasheet)", 7 CLK (in) "Clock Input. Synchronizes the serial data transfer and determines conversion speed.", 8 VCC+ (power) "Power Supply. Decouple to ground with a 0.1uF ceramic capacitor and a 10uF tantalum capacitor."

## ADS7841E
designator U?
12-Bit, 4-Channel Serial Output Sampling ADC, -40 to 85 degC, 16-pin SOP (DBQ16), Green (RoHS & no Sb/Br); Manufacturer: Texas Instruments; PartNumber: ADS7841E; # Input Channels: 4; Analog Voltage AV/DD(Max)(V): 5.25; Analog Voltage AV/DD(Min)(V): 4.75; Architecture: SAR; INL(Max)(+/-LSB): 2; Interface: Serial SPI; Resolution(Bits): 12; Sample Rate (max)(SPS): 200k; SFDR(dB): 79; SINAD(dB): 71; SubFamily: Precision ADC (<=10MSPS); DatasheetVersion: SBAS084B; PackageVersion: 4073301-2/H, 10/2008; PackageReference: DBQ16; PackageDescription: 16-Pin Plastic Small Outline, Body 3.9 x 4.9 mm, Pitch 0.635 mm; Supplier 1: Digi-Key; Supplier Part Number 1: ADS7827IDRBTG4-ND; Digital Supply(Max)(V): 5.25; Digital Supply(Min)(V): 4.75; Eco-Plan: Green (RoHS & no Sb/Br); Mounting Technology: Surface Mount; Code_JEDEC: MO-137; ComponentLink1Description: Manufacturer URL; ComponentLink1URL: http://www.ti.com/; ComponentLink2Description: Datasheet; ComponentLink2URL: http://www.ti.com/general/docs/lit/getliterature.tsp?genericPartNumber=ADS7841&fileType=pdf; ComponentLink3Description: Package Specification; ComponentLink3URL: http://www.ti.com/litv/pdf/msoi004g
footprint TI-DBQ16_N (SOP, 16-Leads, Body 4.9x3.9mm, Pitch 0.635mm, IPC Medium Density)
footprint TI-DBQ16_L (SOP, 16-Leads, Body 4.9x3.9mm, Pitch 0.635mm, IPC High Density)
footprint TI-DBQ16_M (SOP, 16-Leads, Body 4.9x3.9mm, Pitch 0.635mm, IPC Low Density)
pins: 1 VCC+ (power) "Power Supply, 2.7V to 5V", 2 CH0 (in) "Analog Input Channel 0", 3 CH1 (in) "Analog Input Channel 1", 4 CH2 (in) "Analog Input Channel 2", 5 CH3 (in) "Analog Input Channel 3", 6 COM (power) "Ground Reference for Analog Inputs. Sets zero code voltage in single-ended mode. Connect this pin to ground or ground reference point.", 7 ~{SHDN} (in) "Shutdown. When LOW, the device enters a very low power shutdown mode", 8 VREF (in) "Voltage Reference Input", 9 VCC+ (power) "Power Supply, 2.7V to 5V", 10 GND (power) "Ground", 11 MODE (in) "Conversion Mode. When LOW, the device always performs a 12-bit conversion. When HIGH, the resolution is set by the MODE bit in the CONTROL byte.", 12 DOUT (hiz) "Serial Data Output. Data is shifted on the falling edge of DCLK. This output is high impedance when C\S\ is HIGH.", 13 BUSY (hiz) "Busy Output. This output is high impedance when C\S\ is HIGH.", 14 DIN (in) "Serial Data Input. If C\S\ is LOW, data is latched on rising edge of DCLK.", 15 ~{CS} (in) "Chip Select Input. Controls conversion timing and enables the serial input/output register.", 16 DCLK (in) "External Clock Input. This clock runs the SAR conversion process and synchronizes serial data I/O."

## ADS7841E/2K5
designator U?
12-Bit, 4-Channel Serial Output Sampling ADC, -40 to 85 degC, 16-pin SOP (DBQ16), Green (RoHS & no Sb/Br); Manufacturer: Texas Instruments; PartNumber: ADS7841E/2K5; # Input Channels: 4; Analog Voltage AV/DD(Max)(V): 5.25; Analog Voltage AV/DD(Min)(V): 2.7; Architecture: SAR; INL(Max)(+/-LSB): 2; Interface: Serial SPI; Resolution(Bits): 12; Sample Rate (max)(SPS): 200k; SFDR(dB): 79; SINAD(dB): 71; SubFamily: Precision ADC (<=10MSPS); DatasheetVersion: SBAS084B; PackageVersion: 4073301-2/H, 10/2008; PackageReference: DBQ16; PackageDescription: 16-Pin Plastic Small Outline, Body 3.9 x 4.9 mm, Pitch 0.635 mm; Supplier 1: Digi-Key; Supplier Part Number 1: 296-2206-5-ND; Digital Supply(Max)(V): 5.25; Digital Supply(Min)(V): 2.7; Eco-Plan: Green (RoHS & no Sb/Br); Mounting Technology: Surface Mount; Code_JEDEC: MO-137; ComponentLink1Description: Manufacturer URL; ComponentLink1URL: http://www.ti.com/; ComponentLink2Description: Datasheet; ComponentLink2URL: http://www.ti.com/general/docs/lit/getliterature.tsp?genericPartNumber=ADS7841&fileType=pdf; ComponentLink3Description: Package Specification; ComponentLink3URL: http://www.ti.com/litv/pdf/msoi004g
footprint TI-DBQ16_N (SOP, 16-Leads, Body 4.9x3.9mm, Pitch 0.635mm, IPC Medium Density)
footprint TI-DBQ16_L (SOP, 16-Leads, Body 4.9x3.9mm, Pitch 0.635mm, IPC High Density)
footprint TI-DBQ16_M (SOP, 16-Leads, Body 4.9x3.9mm, Pitch 0.635mm, IPC Low Density)
pins: 1 VCC+ (power) "Power Supply, 2.7V to 5V", 2 CH0 (in) "Analog Input Channel 0", 3 CH1 (in) "Analog Input Channel 1", 4 CH2 (in) "Analog Input Channel 2", 5 CH3 (in) "Analog Input Channel 3", 6 COM (power) "Ground Reference for Analog Inputs. Sets zero code voltage in single-ended mode. Connect this pin to ground or ground reference point.", 7 ~{SHDN} (in) "Shutdown. When LOW, the device enters a very low power shutdown mode", 8 VREF (in) "Voltage Reference Input", 9 VCC+ (power) "Power Supply, 2.7V to 5V", 10 GND (power) "Ground", 11 MODE (in) "Conversion Mode. When LOW, the device always performs a 12-bit conversion. When HIGH, the resolution is set by the MODE bit in the CONTROL byte.", 12 DOUT (hiz) "Serial Data Output. Data is shifted on the falling edge of DCLK. This output is high impedance when C\S\ is HIGH.", 13 BUSY (hiz) "Busy Output. This output is high impedance when C\S\ is HIGH.", 14 DIN (in) "Serial Data Input. If C\S\ is LOW, data is latched on rising edge of DCLK.", 15 ~{CS} (in) "Chip Select Input. Controls conversion timing and enables the serial input/output register.", 16 DCLK (in) "External Clock Input. This clock runs the SAR conversion process and synchronizes serial data I/O."

## ADS7841E/2K5G4
designator U?
12-Bit, 4-Channel Serial Output Sampling ADC, -40 to 85 degC, 16-pin SOP (DBQ16), Green (RoHS & no Sb/Br); Manufacturer: Texas Instruments; PartNumber: ADS7841E/2K5G4; # Input Channels: 4; Analog Voltage AV/DD(Max)(V): 5.25; Analog Voltage AV/DD(Min)(V): 2.7; Architecture: SAR; INL(Max)(+/-LSB): 2; Interface: Serial SPI; Resolution(Bits): 12; Sample Rate (max)(SPS): 200k; SFDR(dB): 79; SINAD(dB): 71; SubFamily: Precision ADC (<=10MSPS); DatasheetVersion: SBAS084B; PackageVersion: 4073301-2/H, 10/2008; PackageReference: DBQ16; PackageDescription: 16-Pin Plastic Small Outline, Body 3.9 x 4.9 mm, Pitch 0.635 mm; Supplier 1: Digi-Key; Supplier Part Number 1: TLV5535IPWG4-ND; Digital Supply(Max)(V): 5.25; Digital Supply(Min)(V): 2.7; Eco-Plan: Green (RoHS & no Sb/Br); Mounting Technology: Surface Mount; Code_JEDEC: MO-137; ComponentLink1Description: Manufacturer URL; ComponentLink1URL: http://www.ti.com/; ComponentLink2Description: Datasheet; ComponentLink2URL: http://www.ti.com/general/docs/lit/getliterature.tsp?genericPartNumber=ADS7841&fileType=pdf; ComponentLink3Description: Package Specification; ComponentLink3URL: http://www.ti.com/litv/pdf/msoi004g
footprint TI-DBQ16_N (SOP, 16-Leads, Body 4.9x3.9mm, Pitch 0.635mm, IPC Medium Density)
footprint TI-DBQ16_L (SOP, 16-Leads, Body 4.9x3.9mm, Pitch 0.635mm, IPC High Density)
footprint TI-DBQ16_M (SOP, 16-Leads, Body 4.9x3.9mm, Pitch 0.635mm, IPC Low Density)
pins: 1 VCC+ (power) "Power Supply, 2.7V to 5V", 2 CH0 (in) "Analog Input Channel 0", 3 CH1 (in) "Analog Input Channel 1", 4 CH2 (in) "Analog Input Channel 2", 5 CH3 (in) "Analog Input Channel 3", 6 COM (power) "Ground Reference for Analog Inputs. Sets zero code voltage in single-ended mode. Connect this pin to ground or ground reference point.", 7 ~{SHDN} (in) "Shutdown. When LOW, the device enters a very low power shutdown mode", 8 VREF (in) "Voltage Reference Input", 9 VCC+ (power) "Power Supply, 2.7V to 5V", 10 GND (power) "Ground", 11 MODE (in) "Conversion Mode. When LOW, the device always performs a 12-bit conversion. When HIGH, the resolution is set by the MODE bit in the CONTROL byte.", 12 DOUT (hiz) "Serial Data Output. Data is shifted on the falling edge of DCLK. This output is high impedance when C\S\ is HIGH.", 13 BUSY (hiz) "Busy Output. This output is high impedance when C\S\ is HIGH.", 14 DIN (in) "Serial Data Input. If C\S\ is LOW, data is latched on rising edge of DCLK.", 15 ~{CS} (in) "Chip Select Input. Controls conversion timing and enables the serial input/output register.", 16 DCLK (in) "External Clock Input. This clock runs the SAR conversion process and synchronizes serial data I/O."

## ADS7841EB
designator U?
12-Bit, 4-Channel Serial Output Sampling ADC, -40 to 85 degC, 16-pin SOP (DBQ16), Green (RoHS & no Sb/Br); Manufacturer: Texas Instruments; PartNumber: ADS7841EB; # Input Channels: 4; Analog Voltage AV/DD(Max)(V): 5.25; Analog Voltage AV/DD(Min)(V): 2.7; Architecture: SAR; INL(Max)(+/-LSB): 1; Interface: Serial SPI; Resolution(Bits): 12; Sample Rate (max)(SPS): 200k; SFDR(dB): 81; SINAD(dB): 72; SubFamily: Precision ADC (<=10MSPS); DatasheetVersion: SBAS084B; PackageVersion: 4073301-2/H, 10/2008; PackageReference: DBQ16; PackageDescription: 16-Pin Plastic Small Outline, Body 3.9 x 4.9 mm, Pitch 0.635 mm; Supplier 1: Digi-Key; Supplier Part Number 1: TLV5535IPWR-ND; Digital Supply(Max)(V): 5.25; Digital Supply(Min)(V): 2.7; Eco-Plan: Green (RoHS & no Sb/Br); Mounting Technology: Surface Mount; Code_JEDEC: MO-137; ComponentLink1Description: Manufacturer URL; ComponentLink1URL: http://www.ti.com/; ComponentLink2Description: Datasheet; ComponentLink2URL: http://www.ti.com/general/docs/lit/getliterature.tsp?genericPartNumber=ADS7841&fileType=pdf; ComponentLink3Description: Package Specification; ComponentLink3URL: http://www.ti.com/litv/pdf/msoi004g
footprint TI-DBQ16_N (SOP, 16-Leads, Body 4.9x3.9mm, Pitch 0.635mm, IPC Medium Density)
footprint TI-DBQ16_L (SOP, 16-Leads, Body 4.9x3.9mm, Pitch 0.635mm, IPC High Density)
footprint TI-DBQ16_M (SOP, 16-Leads, Body 4.9x3.9mm, Pitch 0.635mm, IPC Low Density)
pins: 1 VCC+ (power) "Power Supply, 2.7V to 5V", 2 CH0 (in) "Analog Input Channel 0", 3 CH1 (in) "Analog Input Channel 1", 4 CH2 (in) "Analog Input Channel 2", 5 CH3 (in) "Analog Input Channel 3", 6 COM (power) "Ground Reference for Analog Inputs. Sets zero code voltage in single-ended mode. Connect this pin to ground or ground reference point.", 7 ~{SHDN} (in) "Shutdown. When LOW, the device enters a very low power shutdown mode", 8 VREF (in) "Voltage Reference Input", 9 VCC+ (power) "Power Supply, 2.7V to 5V", 10 GND (power) "Ground", 11 MODE (in) "Conversion Mode. When LOW, the device always performs a 12-bit conversion. When HIGH, the resolution is set by the MODE bit in the CONTROL byte.", 12 DOUT (hiz) "Serial Data Output. Data is shifted on the falling edge of DCLK. This output is high impedance when C\S\ is HIGH.", 13 BUSY (hiz) "Busy Output. This output is high impedance when C\S\ is HIGH.", 14 DIN (in) "Serial Data Input. If C\S\ is LOW, data is latched on rising edge of DCLK.", 15 ~{CS} (in) "Chip Select Input. Controls conversion timing and enables the serial input/output register.", 16 DCLK (in) "External Clock Input. This clock runs the SAR conversion process and synchronizes serial data I/O."

## ADS7841EB/2K5
designator U?
12-Bit, 4-Channel Serial Output Sampling ADC, -40 to 85 degC, 16-pin SOP (DBQ16), Green (RoHS & no Sb/Br); Manufacturer: Texas Instruments; PartNumber: ADS7841EB/2K5; # Input Channels: 4; Analog Voltage AV/DD(Max)(V): 5.25; Analog Voltage AV/DD(Min)(V): 2.7; Architecture: SAR; INL(Max)(+/-LSB): 1; Interface: Serial SPI; Resolution(Bits): 12; Sample Rate (max)(SPS): 200k; SFDR(dB): 81; SINAD(dB): 72; SubFamily: Precision ADC (<=10MSPS); DatasheetVersion: SBAS084B; PackageVersion: 4073301-2/H, 10/2008; PackageReference: DBQ16; PackageDescription: 16-Pin Plastic Small Outline, Body 3.9 x 4.9 mm, Pitch 0.635 mm; Supplier 1: Digi-Key; Supplier Part Number 1: TLV5535IPWRG4-ND; Digital Supply(Max)(V): 5.25; Digital Supply(Min)(V): 2.7; Eco-Plan: Green (RoHS & no Sb/Br); Mounting Technology: Surface Mount; Code_JEDEC: MO-137; ComponentLink1Description: Manufacturer URL; ComponentLink1URL: http://www.ti.com/; ComponentLink2Description: Datasheet; ComponentLink2URL: http://www.ti.com/general/docs/lit/getliterature.tsp?genericPartNumber=ADS7841&fileType=pdf; ComponentLink3Description: Package Specification; ComponentLink3URL: http://www.ti.com/litv/pdf/msoi004g
footprint TI-DBQ16_N (SOP, 16-Leads, Body 4.9x3.9mm, Pitch 0.635mm, IPC Medium Density)
footprint TI-DBQ16_L (SOP, 16-Leads, Body 4.9x3.9mm, Pitch 0.635mm, IPC High Density)
footprint TI-DBQ16_M (SOP, 16-Leads, Body 4.9x3.9mm, Pitch 0.635mm, IPC Low Density)
pins: 1 VCC+ (power) "Power Supply, 2.7V to 5V", 2 CH0 (in) "Analog Input Channel 0", 3 CH1 (in) "Analog Input Channel 1", 4 CH2 (in) "Analog Input Channel 2", 5 CH3 (in) "Analog Input Channel 3", 6 COM (power) "Ground Reference for Analog Inputs. Sets zero code voltage in single-ended mode. Connect this pin to ground or ground reference point.", 7 ~{SHDN} (in) "Shutdown. When LOW, the device enters a very low power shutdown mode", 8 VREF (in) "Voltage Reference Input", 9 VCC+ (power) "Power Supply, 2.7V to 5V", 10 GND (power) "Ground", 11 MODE (in) "Conversion Mode. When LOW, the device always performs a 12-bit conversion. When HIGH, the resolution is set by the MODE bit in the CONTROL byte.", 12 DOUT (hiz) "Serial Data Output. Data is shifted on the falling edge of DCLK. This output is high impedance when C\S\ is HIGH.", 13 BUSY (hiz) "Busy Output. This output is high impedance when C\S\ is HIGH.", 14 DIN (in) "Serial Data Input. If C\S\ is LOW, data is latched on rising edge of DCLK.", 15 ~{CS} (in) "Chip Select Input. Controls conversion timing and enables the serial input/output register.", 16 DCLK (in) "External Clock Input. This clock runs the SAR conversion process and synchronizes serial data I/O."

## ADS7841EB/2K5G4
designator U?
12-Bit, 4-Channel Serial Output Sampling ADC, -40 to 85 degC, 16-pin SOP (DBQ16), Green (RoHS & no Sb/Br); Manufacturer: Texas Instruments; PartNumber: ADS7841EB/2K5G4; # Input Channels: 4; Analog Voltage AV/DD(Max)(V): 5.25; Analog Voltage AV/DD(Min)(V): 2.7; Architecture: SAR; INL(Max)(+/-LSB): 1; Interface: Serial SPI; Resolution(Bits): 12; Sample Rate (max)(SPS): 200k; SFDR(dB): 81; SINAD(dB): 72; SubFamily: Precision ADC (<=10MSPS); DatasheetVersion: SBAS084B; PackageVersion: 4073301-2/H, 10/2008; PackageReference: DBQ16; PackageDescription: 16-Pin Plastic Small Outline, Body 3.9 x 4.9 mm, Pitch 0.635 mm; Supplier 1: Digi-Key; Supplier Part Number 1: 296-2198-5-ND; Digital Supply(Max)(V): 5.25; Digital Supply(Min)(V): 2.7; Eco-Plan: Green (RoHS & no Sb/Br); Mounting Technology: Surface Mount; Code_JEDEC: MO-137; ComponentLink1Description: Manufacturer URL; ComponentLink1URL: http://www.ti.com/; ComponentLink2Description: Datasheet; ComponentLink2URL: http://www.ti.com/general/docs/lit/getliterature.tsp?genericPartNumber=ADS7841&fileType=pdf; ComponentLink3Description: Package Specification; ComponentLink3URL: http://www.ti.com/litv/pdf/msoi004g
footprint TI-DBQ16_N (SOP, 16-Leads, Body 4.9x3.9mm, Pitch 0.635mm, IPC Medium Density)
footprint TI-DBQ16_L (SOP, 16-Leads, Body 4.9x3.9mm, Pitch 0.635mm, IPC High Density)
footprint TI-DBQ16_M (SOP, 16-Leads, Body 4.9x3.9mm, Pitch 0.635mm, IPC Low Density)
pins: 1 VCC+ (power) "Power Supply, 2.7V to 5V", 2 CH0 (in) "Analog Input Channel 0", 3 CH1 (in) "Analog Input Channel 1", 4 CH2 (in) "Analog Input Channel 2", 5 CH3 (in) "Analog Input Channel 3", 6 COM (power) "Ground Reference for Analog Inputs. Sets zero code voltage in single-ended mode. Connect this pin to ground or ground reference point.", 7 ~{SHDN} (in) "Shutdown. When LOW, the device enters a very low power shutdown mode", 8 VREF (in) "Voltage Reference Input", 9 VCC+ (power) "Power Supply, 2.7V to 5V", 10 GND (power) "Ground", 11 MODE (in) "Conversion Mode. When LOW, the device always performs a 12-bit conversion. When HIGH, the resolution is set by the MODE bit in the CONTROL byte.", 12 DOUT (hiz) "Serial Data Output. Data is shifted on the falling edge of DCLK. This output is high impedance when C\S\ is HIGH.", 13 BUSY (hiz) "Busy Output. This output is high impedance when C\S\ is HIGH.", 14 DIN (in) "Serial Data Input. If C\S\ is LOW, data is latched on rising edge of DCLK.", 15 ~{CS} (in) "Chip Select Input. Controls conversion timing and enables the serial input/output register.", 16 DCLK (in) "External Clock Input. This clock runs the SAR conversion process and synchronizes serial data I/O."

## ADS7841EBG4
designator U?
12-Bit, 4-Channel Serial Output Sampling ADC, -40 to 85 degC, 16-pin SOP (DBQ16), Green (RoHS & no Sb/Br); Manufacturer: Texas Instruments; PartNumber: ADS7841EBG4; # Input Channels: 4; Analog Voltage AV/DD(Max)(V): 5.25; Analog Voltage AV/DD(Min)(V): 2.7; Architecture: SAR; INL(Max)(+/-LSB): 1; Interface: Serial SPI; Resolution(Bits): 12; Sample Rate (max)(SPS): 200k; SFDR(dB): 81; SINAD(dB): 72; SubFamily: Precision ADC (<=10MSPS); DatasheetVersion: SBAS084B; PackageVersion: 4073301-2/H, 10/2008; PackageReference: DBQ16; PackageDescription: 16-Pin Plastic Small Outline, Body 3.9 x 4.9 mm, Pitch 0.635 mm; Supplier 1: Digi-Key; Supplier Part Number 1: TLV1578CDAG4-ND; Digital Supply(Max)(V): 5.25; Digital Supply(Min)(V): 2.7; Eco-Plan: Green (RoHS & no Sb/Br); Mounting Technology: Surface Mount; Code_JEDEC: MO-137; ComponentLink1Description: Manufacturer URL; ComponentLink1URL: http://www.ti.com/; ComponentLink2Description: Datasheet; ComponentLink2URL: http://www.ti.com/general/docs/lit/getliterature.tsp?genericPartNumber=ADS7841&fileType=pdf; ComponentLink3Description: Package Specification; ComponentLink3URL: http://www.ti.com/litv/pdf/msoi004g
footprint TI-DBQ16_N (SOP, 16-Leads, Body 4.9x3.9mm, Pitch 0.635mm, IPC Medium Density)
footprint TI-DBQ16_L (SOP, 16-Leads, Body 4.9x3.9mm, Pitch 0.635mm, IPC High Density)
footprint TI-DBQ16_M (SOP, 16-Leads, Body 4.9x3.9mm, Pitch 0.635mm, IPC Low Density)
pins: 1 VCC+ (power) "Power Supply, 2.7V to 5V", 2 CH0 (in) "Analog Input Channel 0", 3 CH1 (in) "Analog Input Channel 1", 4 CH2 (in) "Analog Input Channel 2", 5 CH3 (in) "Analog Input Channel 3", 6 COM (power) "Ground Reference for Analog Inputs. Sets zero code voltage in single-ended mode. Connect this pin to ground or ground reference point.", 7 ~{SHDN} (in) "Shutdown. When LOW, the device enters a very low power shutdown mode", 8 VREF (in) "Voltage Reference Input", 9 VCC+ (power) "Power Supply, 2.7V to 5V", 10 GND (power) "Ground", 11 MODE (in) "Conversion Mode. When LOW, the device always performs a 12-bit conversion. When HIGH, the resolution is set by the MODE bit in the CONTROL byte.", 12 DOUT (hiz) "Serial Data Output. Data is shifted on the falling edge of DCLK. This output is high impedance when C\S\ is HIGH.", 13 BUSY (hiz) "Busy Output. This output is high impedance when C\S\ is HIGH.", 14 DIN (in) "Serial Data Input. If C\S\ is LOW, data is latched on rising edge of DCLK.", 15 ~{CS} (in) "Chip Select Input. Controls conversion timing and enables the serial input/output register.", 16 DCLK (in) "External Clock Input. This clock runs the SAR conversion process and synchronizes serial data I/O."